# Altium footprint library SPM-05-X-B-RA-PF.PcbLib: 1 footprints
Each footprint in its own frame and in the unit in brackets; x right, y up, seen from the top. Pads: shape width x height; smd on the part's side, far side on the other; paste and mask are expansions set on the pad; w line width, h text height; cw(c..) or ccw(c..) is an arc to the next point about the centre after c.
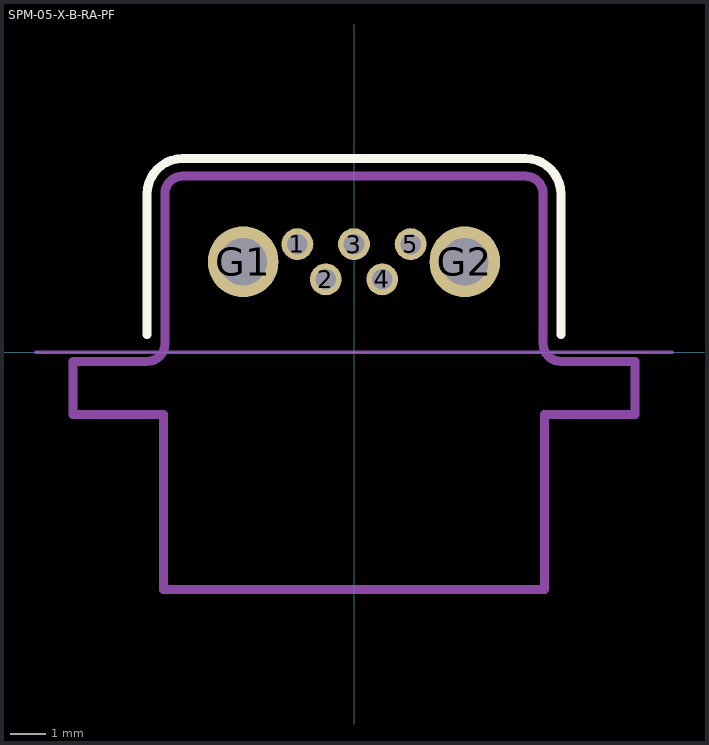
[diagram p0: the footprint, top view; thin cyan lines are the x and y axes]

## SPM-05-X-B-RA-PF [mm]
pads (7):
  round 0.9 hole 0.58 mask+0.075: 1(-1.6,3.06) 2(-0.8,2.06) 3(0,3.06) 4(0.8,2.06) 5(1.6,3.06)
  round 2 hole 1.35 mask+0.075: G1(-3.135,2.56) G2(3.135,2.56)
Top Overlay:
  lines w0.254: -5.85,0.5 -5.85,4.48 cw(c-4.85,4.48) -4.85,5.48 4.85,5.48 cw(c4.85,4.48) 5.85,4.48 5.85,0.5
Mechanical 1:
  lines w0.254: -7.95,-1.76 -5.39,-1.76 -5.39,-6.71 5.39,-6.71 5.39,-1.76 7.95,-1.76 7.95,-0.26 5.85,-0.26 cw(c5.85,0.24) 5.35,0.24 5.35,4.48 ccw(c4.85,4.48) 4.85,4.98 -4.85,4.98 ccw(c-4.85,4.48) -5.35,4.48 -5.35,0.24 cw(c-5.85,0.24) -5.85,-0.26 -7.95,-0.26 -7.95,-1.76
  text "J1" at -0.497,2.052 h0.76
Mechanical 16:
  lines w0.1: -9,0 9,0